# Altium footprint library ICs.PcbLib: 38 footprints (part 2 of 3)
Each footprint in its own frame and in the unit in brackets; x right, y up, seen from the top. Pads: shape width x height; smd on the part's side, far side on the other; paste and mask are expansions set on the pad; w line width, h text height; cw(c..) or ccw(c..) is an arc to the next point about the centre after c.
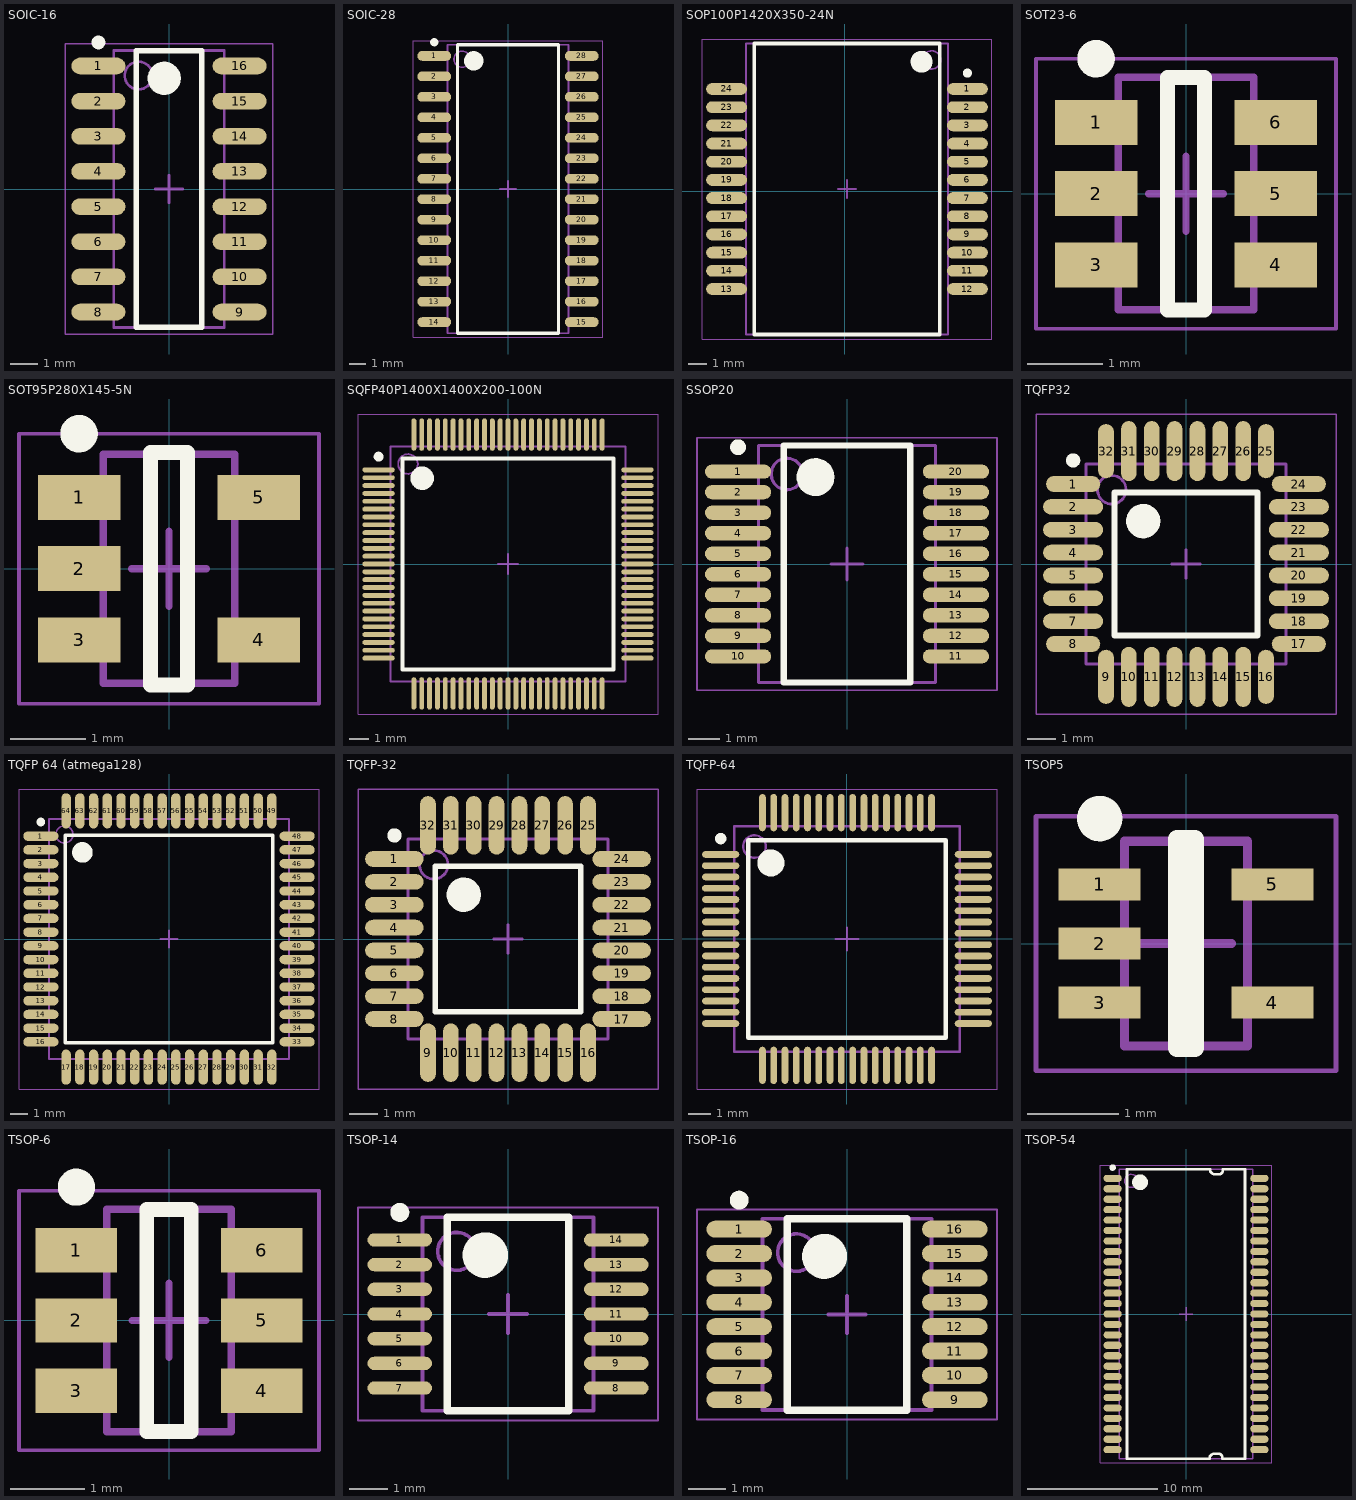
[diagram p1: the footprints below, top view; thin cyan lines are the x and y axes]

## SOIC-16 [mm] "SOIC, 16-Leads, Body 9,90x3,90mm, Pitch 1,27mm, IPC Medium Density"
height 1.75
pads (16):
  oval 1.95x0.6 smd: 1(-2.55,4.445) 2(-2.55,3.175) 3(-2.55,1.905) 4(-2.55,0.635) 5(-2.55,-0.635) 6(-2.55,-1.905) 7(-2.55,-3.175) 8(-2.55,-4.445) 9(2.55,-4.445) 10(2.55,-3.175) 11(2.55,-1.905) 12(2.55,-0.635) 13(2.55,0.635) 14(2.55,1.905) 15(2.55,3.175) 16(2.55,4.445)
Top Overlay:
  circle w0.25: c-2.55,5.295 r0.125
  circle w0.6: c-0.175,4 r0.3
  lines w0.2: -1.175,-5 -1.175,5 1.175,5 1.175,-5 -1.175,-5
Mechanical 13:
  circle w0.1: c-1.1,4.1 r0.5
  lines w0.1: -2,-5 -2,5 2,5 2,-5 -2,-5
Mechanical 15:
  lines w0.05: -3.75,-5.25 -3.75,5.25 3.75,5.25 3.75,-5.25 -3.75,-5.25
  lines w0.1: -0.5,0 0.5,0 ; 0,-0.5 0,0.5
3D body "User Library-SOIC-16-2.step": height 1.75, standoff 0, extent -2.9,-5 3.1,5

## SOIC-28 [mm] "SOIC, 28-Leads, Body 17,90x7,50mm, Pitch 1,27mm, IPC Medium Density"
height 2.65
pads (28):
  oval 2.1x0.6 smd: 1(-4.575,8.255) 2(-4.575,6.985) 3(-4.575,5.715) 4(-4.575,4.445) 5(-4.575,3.175) 6(-4.575,1.905) 7(-4.575,0.635) 8(-4.575,-0.635) 9(-4.575,-1.905) 10(-4.575,-3.175) 11(-4.575,-4.445) 12(-4.575,-5.715) 13(-4.575,-6.985) 14(-4.575,-8.255) 15(4.575,-8.255) 16(4.575,-6.985) 17(4.575,-5.715) 18(4.575,-4.445) 19(4.575,-3.175) 20(4.575,-1.905) 21(4.575,-0.635) 22(4.575,0.635) 23(4.575,1.905) 24(4.575,3.175) 25(4.575,4.445) 26(4.575,5.715) 27(4.575,6.985) 28(4.575,8.255)
Top Overlay:
  circle w0.6: c-2.125,7.95 r0.3
  circle w0.25: c-4.575,9.105 r0.125
  lines w0.2: -3.125,-8.95 3.125,-8.95 3.125,8.95 -3.125,8.95 -3.125,-8.95
Mechanical 13:
  circle w0.1: c-2.85,8.05 r0.5
  lines w0.1: -3.75,-8.95 3.75,-8.95 3.75,8.95 -3.75,8.95 -3.75,-8.95
Mechanical 15:
  lines w0.05: -5.875,-9.2 5.875,-9.2 5.875,9.2 -5.875,9.2 -5.875,-9.2
  lines w0.1: -0.5,0 0.5,0 ; 0,-0.5 0,0.5
3D body: height 2.65, standoff 0.1, extent -3.75,-8.95 3.75,8.95

## SOP100P1420X350-24N [mm] "SOP, 24-Leads, Body 15,90x11,00mm, Pitch 1,00mm, IPC Medium Density"
height 3.5
pads (24):
  oval 2.25x0.65 smd: 1(6.752,5.627) 2(6.752,4.627) 3(6.752,3.627) 4(6.752,2.627) 5(6.752,1.627) 6(6.752,0.627) 7(6.752,-0.373) 8(6.752,-1.373) 9(6.752,-2.373) 10(6.752,-3.373) 11(6.752,-4.373) 12(6.752,-5.373) 13(-6.498,-5.373) 14(-6.498,-4.373) 15(-6.498,-3.373) 16(-6.498,-2.373) 17(-6.498,-1.373) 18(-6.498,-0.373) 19(-6.498,0.627) 20(-6.498,1.627) 21(-6.498,2.627) 22(-6.498,3.627) 23(-6.498,4.627) 24(-6.498,5.627)
Top Overlay:
  circle w0.25: c6.752,6.502 r0.125
  circle w0.6: c4.227,7.127 r0.3
  lines w0.2: -4.973,-7.873 -4.973,8.127 5.227,8.127 5.227,-7.873 -4.973,-7.873
Mechanical 13:
  circle w0.1: c4.777,7.227 r0.5
  lines w0.1: -5.423,-7.873 -5.423,8.127 5.677,8.127 5.677,-7.873 -5.423,-7.873
Mechanical 15:
  lines w0.05: -7.848,-8.123 -7.848,8.377 8.102,8.377 8.102,-8.123 -7.848,-8.123
  lines w0.1: -0.373,0.127 0.627,0.127 ; 0.127,-0.373 0.127,0.627
3D body: height 3.5, standoff 0.35, extent -5.423,-7.873 5.677,8.127

## SOT23-6 [mm] "SOT23, 6-Leads, Body 2,90x2,70mm, Pitch 0,95mm, IPC Medium Density"
height 1.45
pads (6):
  rect 1.1x0.6 smd: 1(-1.2,0.95) 2(-1.2,0) 3(-1.2,-0.95) 4(1.2,-0.95) 5(1.2,0) 6(1.2,0.95)
Top Overlay:
  circle w0.25: c-1.2,1.8 r0.125
  lines w0.2: -0.25,-1.55 -0.25,1.55 0.25,1.55 0.25,-1.55 -0.25,-1.55
Mechanical 13:
  lines w0.1: -0.9,-1.55 0.9,-1.55 0.9,1.55 -0.9,1.55 -0.9,-1.55
Mechanical 15:
  lines w0.05: -2,-1.8 2,-1.8 2,1.8 -2,1.8 -2,-1.8
  lines w0.1: -0.5,0 0.5,0 ; 0,-0.5 0,0.5
3D body "User Library-SOT23-6-2.step": height 1.45, standoff 0, extent -1.4,-1.45 1.4,1.45

## SOT95P280X145-5N [mm] "SOT23, 5-Leads, Body 2,90x2,80mm, Pitch 0,95mm, IPC Medium Density"
height 1.45
pads (5):
  rect 1.1x0.6 smd: 1(-1.2,0.95) 2(-1.2,0) 3(-1.2,-0.95) 4(1.2,-0.95) 5(1.2,0.95)
Top Overlay:
  circle w0.25: c-1.2,1.8 r0.125
  lines w0.2: -0.25,-1.55 -0.25,1.55 0.25,1.55 0.25,-1.55 -0.25,-1.55
Mechanical 13:
  lines w0.1: -0.875,-1.525 0.875,-1.525 0.875,1.525 -0.875,1.525 -0.875,-1.525
Mechanical 15:
  lines w0.05: -2,-1.8 2,-1.8 2,1.8 -2,1.8 -2,-1.8
  lines w0.1: -0.5,0 0.5,0 ; 0,-0.5 0,0.5
3D body "User Library-SOT23-5-1.step": height 1.3, standoff 0, extent -1.5,-1.5 1.5,1.5

## SQFP40P1400X1400X200-100N [mm] "SQFP, 100-Leads, Body 12,00x12,00mm, Pitch 0,40mm, IPC Medium Density"
height 2
pads (100):
  oval 1.65x0.25 smd: 1(-6.6,4.8) 2(-6.6,4.4) 3(-6.6,4) 4(-6.6,3.6) 5(-6.6,3.2) 6(-6.6,2.8) 7(-6.6,2.4) 8(-6.6,2) 9(-6.6,1.6) 10(-6.6,1.2) 11(-6.6,0.8) 12(-6.6,0.4) 13(-6.6,0) 14(-6.6,-0.4) 15(-6.6,-0.8) 16(-6.6,-1.2) 17(-6.6,-1.6) 18(-6.6,-2) 19(-6.6,-2.4) 20(-6.6,-2.8) 21(-6.6,-3.2) 22(-6.6,-3.6) 23(-6.6,-4) 24(-6.6,-4.4) 25(-6.6,-4.8) 51(6.6,-4.8) 52(6.6,-4.4) 53(6.6,-4) 54(6.6,-3.6) 55(6.6,-3.2) 56(6.6,-2.8) 57(6.6,-2.4) 58(6.6,-2) 59(6.6,-1.6) 60(6.6,-1.2) 61(6.6,-0.8) 62(6.6,-0.4) 63(6.6,0) 64(6.6,0.4) 65(6.6,0.8) 66(6.6,1.2) 67(6.6,1.6) 68(6.6,2) 69(6.6,2.4) 70(6.6,2.8) 71(6.6,3.2) 72(6.6,3.6) 73(6.6,4) 74(6.6,4.4) 75(6.6,4.8)
  oval 0.25x1.65 smd: 26(-4.8,-6.6) 27(-4.4,-6.6) 28(-4,-6.6) 29(-3.6,-6.6) 30(-3.2,-6.6) 31(-2.8,-6.6) 32(-2.4,-6.6) 33(-2,-6.6) 34(-1.6,-6.6) 35(-1.2,-6.6) 36(-0.8,-6.6) 37(-0.4,-6.6) 38(0,-6.6) 39(0.4,-6.6) 40(0.8,-6.6) 41(1.2,-6.6) 42(1.6,-6.6) 43(2,-6.6) 44(2.4,-6.6) 45(2.8,-6.6) 46(3.2,-6.6) 47(3.6,-6.6) 48(4,-6.6) 49(4.4,-6.6) 50(4.8,-6.6) 76(4.8,6.6) 77(4.4,6.6) 78(4,6.6) 79(3.6,6.6) 80(3.2,6.6) 81(2.8,6.6) 82(2.4,6.6) 83(2,6.6) 84(1.6,6.6) 85(1.2,6.6) 86(0.8,6.6) 87(0.4,6.6) 88(0,6.6) 89(-0.4,6.6) 90(-0.8,6.6) 91(-1.2,6.6) 92(-1.6,6.6) 93(-2,6.6) 94(-2.4,6.6) 95(-2.8,6.6) 96(-3.2,6.6) 97(-3.6,6.6) 98(-4,6.6) 99(-4.4,6.6) 100(-4.8,6.6)
Top Overlay:
  circle w0.25: c-6.6,5.475 r0.125
  circle w0.6: c-4.375,4.375 r0.3
  lines w0.2: -5.375,-5.375 -5.375,5.375 5.375,5.375 5.375,-5.375 -5.375,-5.375
Mechanical 13:
  circle w0.1: c-5.1,5.1 r0.5
  lines w0.1: -6,-6 -6,6 6,6 6,-6 -6,-6
Mechanical 15:
  lines w0.05: -7.65,-7.65 -7.65,7.65 7.65,7.65 7.65,-7.65 -7.65,-7.65
  lines w0.1: -0.5,0 0.5,0 ; 0,-0.5 0,0.5
3D body: height 2, standoff 0.05, extent -6,-6 6,6

## SSOP20 [mm] "SOP, 20-Leads, Body 7,20x5,30mm, Pitch 0,65mm, IPC Medium Density"
height 2
pads (20):
  oval 2.1x0.45 smd: 1(-3.45,2.925) 2(-3.45,2.275) 3(-3.45,1.625) 4(-3.45,0.975) 5(-3.45,0.325) 6(-3.45,-0.325) 7(-3.45,-0.975) 8(-3.45,-1.625) 9(-3.45,-2.275) 10(-3.45,-2.925) 11(3.45,-2.925) 12(3.45,-2.275) 13(3.45,-1.625) 14(3.45,-0.975) 15(3.45,-0.325) 16(3.45,0.325) 17(3.45,0.975) 18(3.45,1.625) 19(3.45,2.275) 20(3.45,2.925)
Top Overlay:
  circle w0.6: c-1,2.75 r0.3
  circle w0.25: c-3.45,3.7 r0.125
  lines w0.2: -2,-3.75 2,-3.75 2,3.75 -2,3.75 -2,-3.75
Mechanical 13:
  circle w0.1: c-1.9,2.85 r0.5
  lines w0.1: -2.8,-3.75 2.8,-3.75 2.8,3.75 -2.8,3.75 -2.8,-3.75
Mechanical 15:
  lines w0.05: -4.75,-4 4.75,-4 4.75,4 -4.75,4 -4.75,-4
  lines w0.1: -0.5,0 0.5,0 ; 0,-0.5 0,0.5
3D body "User Library-SSOP 20 PIN-1.step": height 1.78, standoff -0.21, extent -3.95,-3.665 3.95,3.665

## TQFP32 [mm] "TQFP, 32-Leads, Body 7,00x7,00mm, Pitch 0,80mm, IPC Medium Density"
height 1.2
pads (32):
  oval 1.9x0.55 smd: 1(-3.95,2.8) 8(-3.95,-2.8) 17(3.95,-2.8) 24(3.95,2.8)
  oval 2.1x0.55 smd: 2(-3.95,2) 3(-3.95,1.2) 4(-3.95,0.4) 5(-3.95,-0.4) 6(-3.95,-1.2) 7(-3.95,-2) 18(3.95,-2) 19(3.95,-1.2) 20(3.95,-0.4) 21(3.95,0.4) 22(3.95,1.2) 23(3.95,2)
  oval 0.55x1.9 smd: 9(-2.8,-3.95) 16(2.8,-3.95) 25(2.8,3.95) 32(-2.8,3.95)
  oval 0.55x2.1 smd: 10(-2,-3.95) 11(-1.2,-3.95) 12(-0.4,-3.95) 13(0.4,-3.95) 14(1.2,-3.95) 15(2,-3.95) 26(2,3.95) 27(1.2,3.95) 28(0.4,3.95) 29(-0.4,3.95) 30(-1.2,3.95) 31(-2,3.95)
Top Overlay:
  circle w0.6: c-1.5,1.5 r0.3
  circle w0.25: c-3.95,3.625 r0.125
  lines w0.2: -2.5,-2.5 2.5,-2.5 2.5,2.5 -2.5,2.5 -2.5,-2.5
Mechanical 13:
  circle w0.1: c-2.6,2.6 r0.5
  lines w0.1: -3.5,-3.5 3.5,-3.5 3.5,3.5 -3.5,3.5 -3.5,-3.5
Mechanical 15:
  lines w0.05: -5.25,-5.25 5.25,-5.25 5.25,5.25 -5.25,5.25 -5.25,-5.25
  lines w0.1: -0.5,0 0.5,0 ; 0,-0.5 0,0.5
3D body: height 1.2, standoff 0.05, extent -3.5,-3.5 3.5,3.5

## TQFP 64 (atmega128) [mm] "TQFP, 64-Leads, Body 14,00x14,00mm, Pitch 0,80mm, IPC Medium Density"
height 1.2
pads (64):
  oval 2.05x0.55 smd: 1(-7.475,6) 2(-7.475,5.2) 3(-7.475,4.4) 4(-7.475,3.6) 5(-7.475,2.8) 6(-7.475,2) 7(-7.475,1.2) 8(-7.475,0.4) 9(-7.475,-0.4) 10(-7.475,-1.2) 11(-7.475,-2) 12(-7.475,-2.8) 13(-7.475,-3.6) 14(-7.475,-4.4) 15(-7.475,-5.2) 16(-7.475,-6) 33(7.475,-6) 34(7.475,-5.2) 35(7.475,-4.4) 36(7.475,-3.6) 37(7.475,-2.8) 38(7.475,-2) 39(7.475,-1.2) 40(7.475,-0.4) 41(7.475,0.4) 42(7.475,1.2) 43(7.475,2) 44(7.475,2.8) 45(7.475,3.6) 46(7.475,4.4) 47(7.475,5.2) 48(7.475,6)
  oval 0.55x2.05 smd: 17(-6,-7.475) 18(-5.2,-7.475) 19(-4.4,-7.475) 20(-3.6,-7.475) 21(-2.8,-7.475) 22(-2,-7.475) 23(-1.2,-7.475) 24(-0.4,-7.475) 25(0.4,-7.475) 26(1.2,-7.475) 27(2,-7.475) 28(2.8,-7.475) 29(3.6,-7.475) 30(4.4,-7.475) 31(5.2,-7.475) 32(6,-7.475) 49(6,7.475) 50(5.2,7.475) 51(4.4,7.475) 52(3.6,7.475) 53(2.8,7.475) 54(2,7.475) 55(1.2,7.475) 56(0.4,7.475) 57(-0.4,7.475) 58(-1.2,7.475) 59(-2,7.475) 60(-2.8,7.475) 61(-3.6,7.475) 62(-4.4,7.475) 63(-5.2,7.475) 64(-6,7.475)
Top Overlay:
  circle w0.6: c-5.05,5.05 r0.3
  circle w0.25: c-7.475,6.825 r0.125
  lines w0.2: -6.05,-6.05 6.05,-6.05 6.05,6.05 -6.05,6.05 -6.05,-6.05
Mechanical 13:
  circle w0.1: c-6.1,6.1 r0.5
  lines w0.1: -7,-7 7,-7 7,7 -7,7 -7,-7
Mechanical 15:
  lines w0.05: -8.75,-8.75 8.75,-8.75 8.75,8.75 -8.75,8.75 -8.75,-8.75
  lines w0.1: -0.5,0 0.5,0 ; 0,-0.5 0,0.5
3D body: height 1.2, standoff 0.05, extent -7,-7 7,7

## TQFP-32 [mm] "TQFP, 32-Leads, Body 7,00x7,00mm, Pitch 0,80mm, IPC Medium Density"
height 1.2
pads (32):
  oval 2.05x0.55 smd: 1(-3.975,2.8) 2(-3.975,2) 3(-3.975,1.2) 4(-3.975,0.4) 5(-3.975,-0.4) 6(-3.975,-1.2) 7(-3.975,-2) 8(-3.975,-2.8) 17(3.975,-2.8) 18(3.975,-2) 19(3.975,-1.2) 20(3.975,-0.4) 21(3.975,0.4) 22(3.975,1.2) 23(3.975,2) 24(3.975,2.8)
  oval 0.55x2.05 smd: 9(-2.8,-3.975) 10(-2,-3.975) 11(-1.2,-3.975) 12(-0.4,-3.975) 13(0.4,-3.975) 14(1.2,-3.975) 15(2,-3.975) 16(2.8,-3.975) 25(2.8,3.975) 26(2,3.975) 27(1.2,3.975) 28(0.4,3.975) 29(-0.4,3.975) 30(-1.2,3.975) 31(-2,3.975) 32(-2.8,3.975)
Top Overlay:
  circle w0.6: c-1.55,1.55 r0.3
  circle w0.25: c-3.975,3.625 r0.125
  lines w0.2: -2.55,-2.55 2.55,-2.55 2.55,2.55 -2.55,2.55 -2.55,-2.55
Mechanical 13:
  circle w0.1: c-2.6,2.6 r0.5
  lines w0.1: -3.5,-3.5 3.5,-3.5 3.5,3.5 -3.5,3.5 -3.5,-3.5
Mechanical 15:
  lines w0.05: -5.25,-5.25 5.25,-5.25 5.25,5.25 -5.25,5.25 -5.25,-5.25
  lines w0.1: -0.5,0 0.5,0 ; 0,-0.5 0,0.5
3D body: height 1.2, standoff 0.05, extent -3.5,-3.5 3.5,3.5

## TQFP-64 [mm] "TSQFP, 64-Leads, Body 10,00x10,00mm, Pitch 0,50mm, IPC Medium Density"
height 1.2
pads (64):
  oval 1.65x0.3 smd: 1(-5.6,3.75) 2(-5.6,3.25) 3(-5.6,2.75) 4(-5.6,2.25) 5(-5.6,1.75) 6(-5.6,1.25) 7(-5.6,0.75) 8(-5.6,0.25) 9(-5.6,-0.25) 10(-5.6,-0.75) 11(-5.6,-1.25) 12(-5.6,-1.75) 13(-5.6,-2.25) 14(-5.6,-2.75) 15(-5.6,-3.25) 16(-5.6,-3.75) 33(5.6,-3.75) 34(5.6,-3.25) 35(5.6,-2.75) 36(5.6,-2.25) 37(5.6,-1.75) 38(5.6,-1.25) 39(5.6,-0.75) 40(5.6,-0.25) 41(5.6,0.25) 42(5.6,0.75) 43(5.6,1.25) 44(5.6,1.75) 45(5.6,2.25) 46(5.6,2.75) 47(5.6,3.25) 48(5.6,3.75)
  oval 0.3x1.65 smd: 17(-3.75,-5.6) 18(-3.25,-5.6) 19(-2.75,-5.6) 20(-2.25,-5.6) 21(-1.75,-5.6) 22(-1.25,-5.6) 23(-0.75,-5.6) 24(-0.25,-5.6) 25(0.25,-5.6) 26(0.75,-5.6) 27(1.25,-5.6) 28(1.75,-5.6) 29(2.25,-5.6) 30(2.75,-5.6) 31(3.25,-5.6) 32(3.75,-5.6) 49(3.75,5.6) 50(3.25,5.6) 51(2.75,5.6) 52(2.25,5.6) 53(1.75,5.6) 54(1.25,5.6) 55(0.75,5.6) 56(0.25,5.6) 57(-0.25,5.6) 58(-0.75,5.6) 59(-1.25,5.6) 60(-1.75,5.6) 61(-2.25,5.6) 62(-2.75,5.6) 63(-3.25,5.6) 64(-3.75,5.6)
Top Overlay:
  circle w0.25: c-5.6,4.45 r0.125
  circle w0.6: c-3.375,3.375 r0.3
  lines w0.2: -4.375,-4.375 -4.375,4.375 4.375,4.375 4.375,-4.375 -4.375,-4.375
Mechanical 13:
  circle w0.1: c-4.1,4.1 r0.5
  lines w0.1: -5,-5 -5,5 5,5 5,-5 -5,-5
Mechanical 15:
  lines w0.05: -6.65,-6.65 -6.65,6.65 6.65,6.65 6.65,-6.65 -6.65,-6.65
  lines w0.1: -0.5,0 0.5,0 ; 0,-0.5 0,0.5
3D body: height 1.2, standoff 0.05, extent -5,-5 5,5

## TSOP5 [mm] "SOT23, 5-Leads, Body 2,05x2,13mm, Pitch 0,65mm, IPC Medium Density"
height 1.1
pads (5):
  rect 0.9x0.35 smd: 1(-0.95,0.65) 2(-0.95,0) 3(-0.95,-0.65) 4(0.95,-0.65) 5(0.95,0.65)
Top Overlay:
  circle w0.25: c-0.95,1.375 r0.125
  lines w0.2: -0.1,-1.15 -0.1,1.15 0.1,1.15 0.1,-1.15 -0.1,-1.15
Mechanical 13:
  lines w0.1: -0.675,-1.125 0.675,-1.125 0.675,1.125 -0.675,1.125 -0.675,-1.125
Mechanical 15:
  lines w0.05: -1.65,-1.4 1.65,-1.4 1.65,1.4 -1.65,1.4 -1.65,-1.4
  lines w0.1: -0.5,0 0.5,0 ; 0,-0.5 0,0.5
3D body "User Library-TSSOP-5 (SOT-23-5 PITCH 0_65).STEP": height 1.35, standoff 0.24, extent -1.15,-1.125 1.1,1.125

## TSOP-6 [mm]
pads (6):
  rect 1.1x0.6 smd: 1(-1.25,0.95) 2(-1.25,0) 3(-1.25,-0.95) 4(1.25,-0.95) 5(1.25,0) 6(1.25,0.95)
Top Overlay:
  circle w0.25: c-1.25,1.8 r0.125
  lines w0.2: -0.3,-1.5 0.3,-1.5 0.3,1.5 -0.3,1.5 -0.3,-1.5
Mechanical 13:
  lines w0.1: -0.84,-1.5 -0.84,1.5 0.84,1.5 0.84,-1.5 -0.84,-1.5
Mechanical 15:
  lines w0.05: -2.025,-1.75 -2.025,1.75 2.025,1.75 2.025,-1.75 -2.025,-1.75
  lines w0.1: -0.5,0 0.5,0 ; 0,-0.5 0,0.5
3D body "User Library-SOT23-6-2.step": height 1.45, standoff 0, extent -1.4,-1.45 1.4,1.45

## TSOP-14 [mm] "TSOP, 14-Leads, Body 5,00x4,40mm, Pitch 0,65mm, IPC Medium Density"
height 1.2
pads (14):
  oval 1.7x0.35 smd: 1(-2.85,1.95) 2(-2.85,1.3) 3(-2.85,0.65) 4(-2.85,0) 5(-2.85,-0.65) 6(-2.85,-1.3) 7(-2.85,-1.95) 8(2.85,-1.95) 9(2.85,-1.3) 10(2.85,-0.65) 11(2.85,0) 12(2.85,0.65) 13(2.85,1.3) 14(2.85,1.95)
Top Overlay:
  circle w0.6: c-0.6,1.55 r0.3
  circle w0.25: c-2.85,2.675 r0.125
  lines w0.2: -1.6,-2.55 1.6,-2.55 1.6,2.55 -1.6,2.55 -1.6,-2.55
Mechanical 13:
  circle w0.1: c-1.35,1.65 r0.5
  lines w0.1: -2.25,-2.55 2.25,-2.55 2.25,2.55 -2.25,2.55 -2.25,-2.55
Mechanical 15:
  lines w0.05: -3.95,-2.8 3.95,-2.8 3.95,2.8 -3.95,2.8 -3.95,-2.8
  lines w0.1: -0.5,0 0.5,0 ; 0,-0.5 0,0.5
3D body: height 1.2, standoff 0.1, extent -2.25,-2.55 2.25,2.55

## TSOP-16 [mm] "TSOP, 16-Leads, Body 5,00x4,40mm, Pitch 0,65mm, IPC Medium Density"
height 1.2
pads (16):
  oval 1.75x0.45 smd: 1(-2.875,2.275) 2(-2.875,1.625) 3(-2.875,0.975) 4(-2.875,0.325) 5(-2.875,-0.325) 6(-2.875,-0.975) 7(-2.875,-1.625) 8(-2.875,-2.275) 9(2.875,-2.275) 10(2.875,-1.625) 11(2.875,-0.975) 12(2.875,-0.325) 13(2.875,0.325) 14(2.875,0.975) 15(2.875,1.625) 16(2.875,2.275)
Top Overlay:
  circle w0.6: c-0.6,1.55 r0.3
  circle w0.25: c-2.875,3.05 r0.125
  lines w0.2: -1.6,-2.55 1.6,-2.55 1.6,2.55 -1.6,2.55 -1.6,-2.55
Mechanical 13:
  circle w0.1: c-1.35,1.65 r0.5
  lines w0.1: -2.25,-2.55 2.25,-2.55 2.25,2.55 -2.25,2.55 -2.25,-2.55
Mechanical 15:
  lines w0.05: -4,-2.8 4,-2.8 4,2.8 -4,2.8 -4,-2.8
  lines w0.1: -0.5,0 0.5,0 ; 0,-0.5 0,0.5
3D body: height 1.2, standoff 0.1, extent -2.25,-2.55 2.25,2.55

## TSOP-54 [mm] "TSOP, 54-Leads, Body 22,22x10,16mm, Pitch 0,80mm, IPC Medium Density"
height 1.2
pads (54):
  oval 1.4x0.55 smd: 1(-5.625,10.4) 2(-5.625,9.6) 3(-5.625,8.8) 4(-5.625,8) 5(-5.625,7.2) 6(-5.625,6.4) 7(-5.625,5.6) 8(-5.625,4.8) 9(-5.625,4) 10(-5.625,3.2) 11(-5.625,2.4) 12(-5.625,1.6) 13(-5.625,0.8) 14(-5.625,0) 15(-5.625,-0.8) 16(-5.625,-1.6) 17(-5.625,-2.4) 18(-5.625,-3.2) 19(-5.625,-4) 20(-5.625,-4.8) 21(-5.625,-5.6) 22(-5.625,-6.4) 23(-5.625,-7.2) 24(-5.625,-8) 25(-5.625,-8.8) 26(-5.625,-9.6) 27(-5.625,-10.4) 28(5.625,-10.4) 29(5.625,-9.6) 30(5.625,-8.8) 31(5.625,-8) 32(5.625,-7.2) 33(5.625,-6.4) 34(5.625,-5.6) 35(5.625,-4.8) 36(5.625,-4) 37(5.625,-3.2) 38(5.625,-2.4) 39(5.625,-1.6) 40(5.625,-0.8) 41(5.625,0) 42(5.625,0.8) 43(5.625,1.6) 44(5.625,2.4) 45(5.625,3.2) 46(5.625,4) 47(5.625,4.8) 48(5.625,5.6) 49(5.625,6.4) 50(5.625,7.2) 51(5.625,8) 52(5.625,8.8) 53(5.625,9.6) 54(5.625,10.4)
Top Overlay:
  circle w0.25: c-5.625,11.225 r0.125
  circle w0.6: c-3.525,10.1 r0.3
  lines w0.2: -4.525,-11.1 1.8,-11.1 cw(c2.2,-11.1) 2.2,-10.7 2.462,-10.7 cw(c2.462,-11.028) 2.79,-11.028 2.79,-11.1 4.525,-11.1 4.525,11.1 3.959,11.1 2.828,11.1 2.828,11.028 cw(c2.5,11.028) 2.5,10.7 2.238,10.7 cw(c2.238,11.1) 1.838,11.1 1.555,11.1 1.414,11.1 1.131,11.1 -1.131,11.1 -2.262,11.1 -4.525,11.1 -4.525,-11.1
Mechanical 13:
  circle w0.1: c-4.2,10.2 r0.5
  lines w0.1: -5.1,-11.1 -5.1,11.1 5.1,11.1 5.1,-11.1 -5.1,-11.1
Mechanical 15:
  lines w0.05: -6.575,-11.4 -6.575,11.4 6.575,11.4 6.575,-11.4 -6.575,-11.4
  lines w0.1: -0.5,0 0.5,0 ; 0,-0.5 0,0.5
3D body "User Library-TSOP-54-1.step": height 1.25, standoff 0, extent -5.88,-11.11 5.88,11.11